# Altium footprint library TE_1932638-3.PcbLib: 1 footprints
Each footprint in its own frame and in the unit in brackets; x right, y up, seen from the top. Pads: shape width x height; smd on the part's side, far side on the other; paste and mask are expansions set on the pad; w line width, h text height; cw(c..) or ccw(c..) is an arc to the next point about the centre after c.
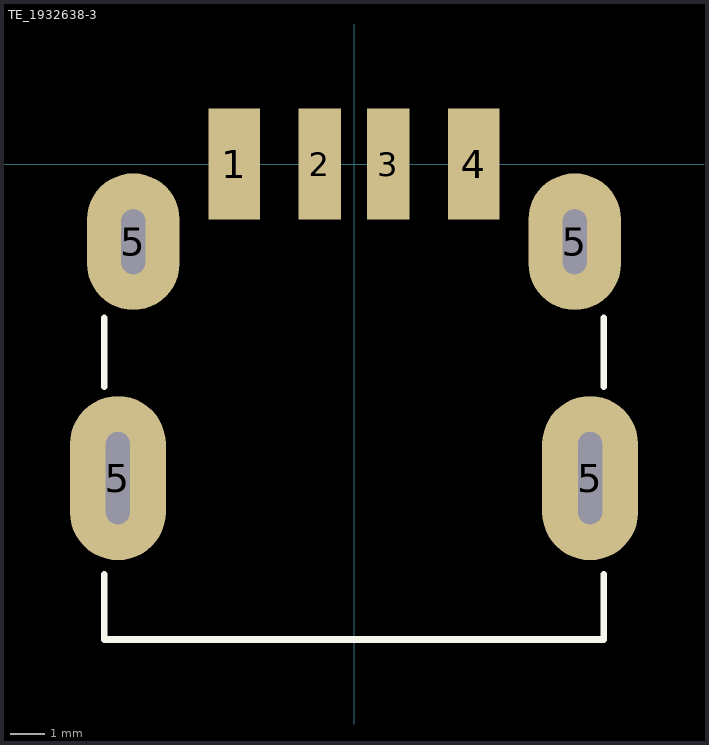
[diagram p0: the footprint, top view; thin cyan lines are the x and y axes]

## TE_1932638-3 [mm] "TE Connectivity USB A Jack Right-Angle"
pads (8):
  rect 1.5x3.25 smd: 1(-3.5,0) 4(3.5,0)
  rect 1.25x3.25 smd: 2(-1,0) 3(1,0)
  oval 2.8x4.8 hole 0.7 slot 2.7 at 90 deg: 5(-6.9,-9.18) 5(6.9,-9.18)
  oval 2.7x4 hole 0.7 slot 1.9 at 90 deg: 5(-6.45,-2.27) 5(6.45,-2.27)
Top Overlay:
  lines w0.2: -7.3,-12 -7.3,-13.9 7.3,-13.9 7.3,-12 ; -7.3,-6.5 -7.3,-4.5 ; 7.3,-6.5 7.3,-4.5
Top Paste:
  drawing of 4 lines, arcs and shapes, not listed
3D body "TE_1932638-3.stp": height 7.63, standoff -1.23, extent -7.315,-13.89 7.315,1.05